# Altium schematic symbol library WeAct-ESP32-C5-A.SchLib: 1 symbol
Pins are listed as number, name and electrical type; pins without a type are passive.

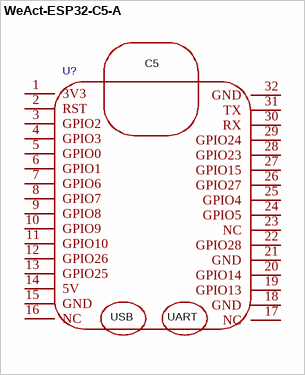
[diagram p0: symbol WeAct-ESP32-C5-A]

## WeAct-ESP32-C5-A
designator U?
Symbol: WeAct-ESP32-C5-A; AddInBom: yes; Device: WeAct-ESP32-C5-A; FootprintName: WeAct-ESP32-C5-A; ConvertToPcb: yes
footprint WeAct-ESP32-C5-A
pins: 1 3V3, 2 RST, 3 GPIO2, 4 GPIO3, 5 GPIO0, 6 GPIO1, 7 GPIO6, 8 GPIO7, 9 GPIO8, 10 GPIO9, 11 GPIO10, 12 GPIO26, 13 GPIO25, 14 5V, 15 GND, 16 NC, 17 NC, 18 GND, 19 GPIO13, 20 GPIO14, 21 GND, 22 GPIO28, 23 NC, 24 GPIO5, 25 GPIO4, 26 GPIO27, 27 GPIO15, 28 GPIO23, 29 GPIO24, 30 RX, 31 TX, 32 GND
text: C5; USB; UART